# EAGLE library part 502570-0893 (library 502570-0893)
Memory Card Connectors MICRO SD CARD CONN NORM SMT PUSH-PUSH Source: Datasheet <https://componentsearchengine.com/Datasheets/2/502570-0893.pdf>
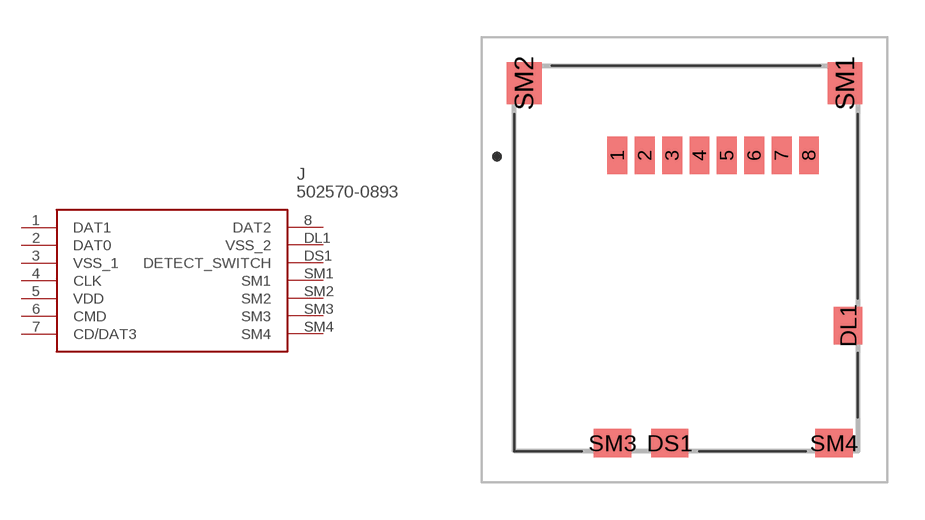
[diagram p0: symbol with the pads of 5025700893; footprint 5025700893]

Designator prefix J

## 502570-0893 (Description: Memory Card Connectors MICRO SD CARD CONN NORM SMT PUSH-PUSH; Height: 1.95mm; Manufacturer_Name: Molex; Manufacturer_Part_Number: 502570-0893; Mouser_Part_Number: 538-502570-0893; Mouser_Price-Stock: https://www.mouser.co.uk/ProductDetail/Molex/502570-0893?qs=xbccQsLEe0eiL%252BVgS3E4nA%3D%3D)  [5025700893]
1  DAT1
2  DAT0
3  VSS_1
4  CLK
5  VDD
6  CMD
7  CD/DAT3
8  DAT2
DL1  VSS_2
DS1  DETECT_SWITCH
SM1  SM1
SM2  SM2
SM3  SM3
SM4  SM4

## Footprint 5025700893 (pad centres in mm)
502570-0893
smd 0.8 x 1.5: 1 -2.762,4.15; 2 -1.662,4.15; 3 -0.562,4.15; 4 0.538,4.15; 5 1.638,4.15; 6 2.738,4.15; 7 3.838,4.15; 8 4.938,4.15
smd 1.15 x 1.5: DL1 6.513,-2.7
smd 1.5 x 1.15: DS1 -0.662,-7.425; SM3 -2.962,-7.425; SM4 5.938,-7.425
smd 1.4 x 1.7: SM1 6.388,7.05; SM2 -6.512,7.05